# Altium footprint library ptitteam_pcb.PcbLib: 43 footprints (part 1 of 3)
Each footprint in its own frame and in the unit in brackets; x right, y up, seen from the top. Pads: shape width x height; smd on the part's side, far side on the other; paste and mask are expansions set on the pad; w line width, h text height; cw(c..) or ccw(c..) is an arc to the next point about the centre after c.
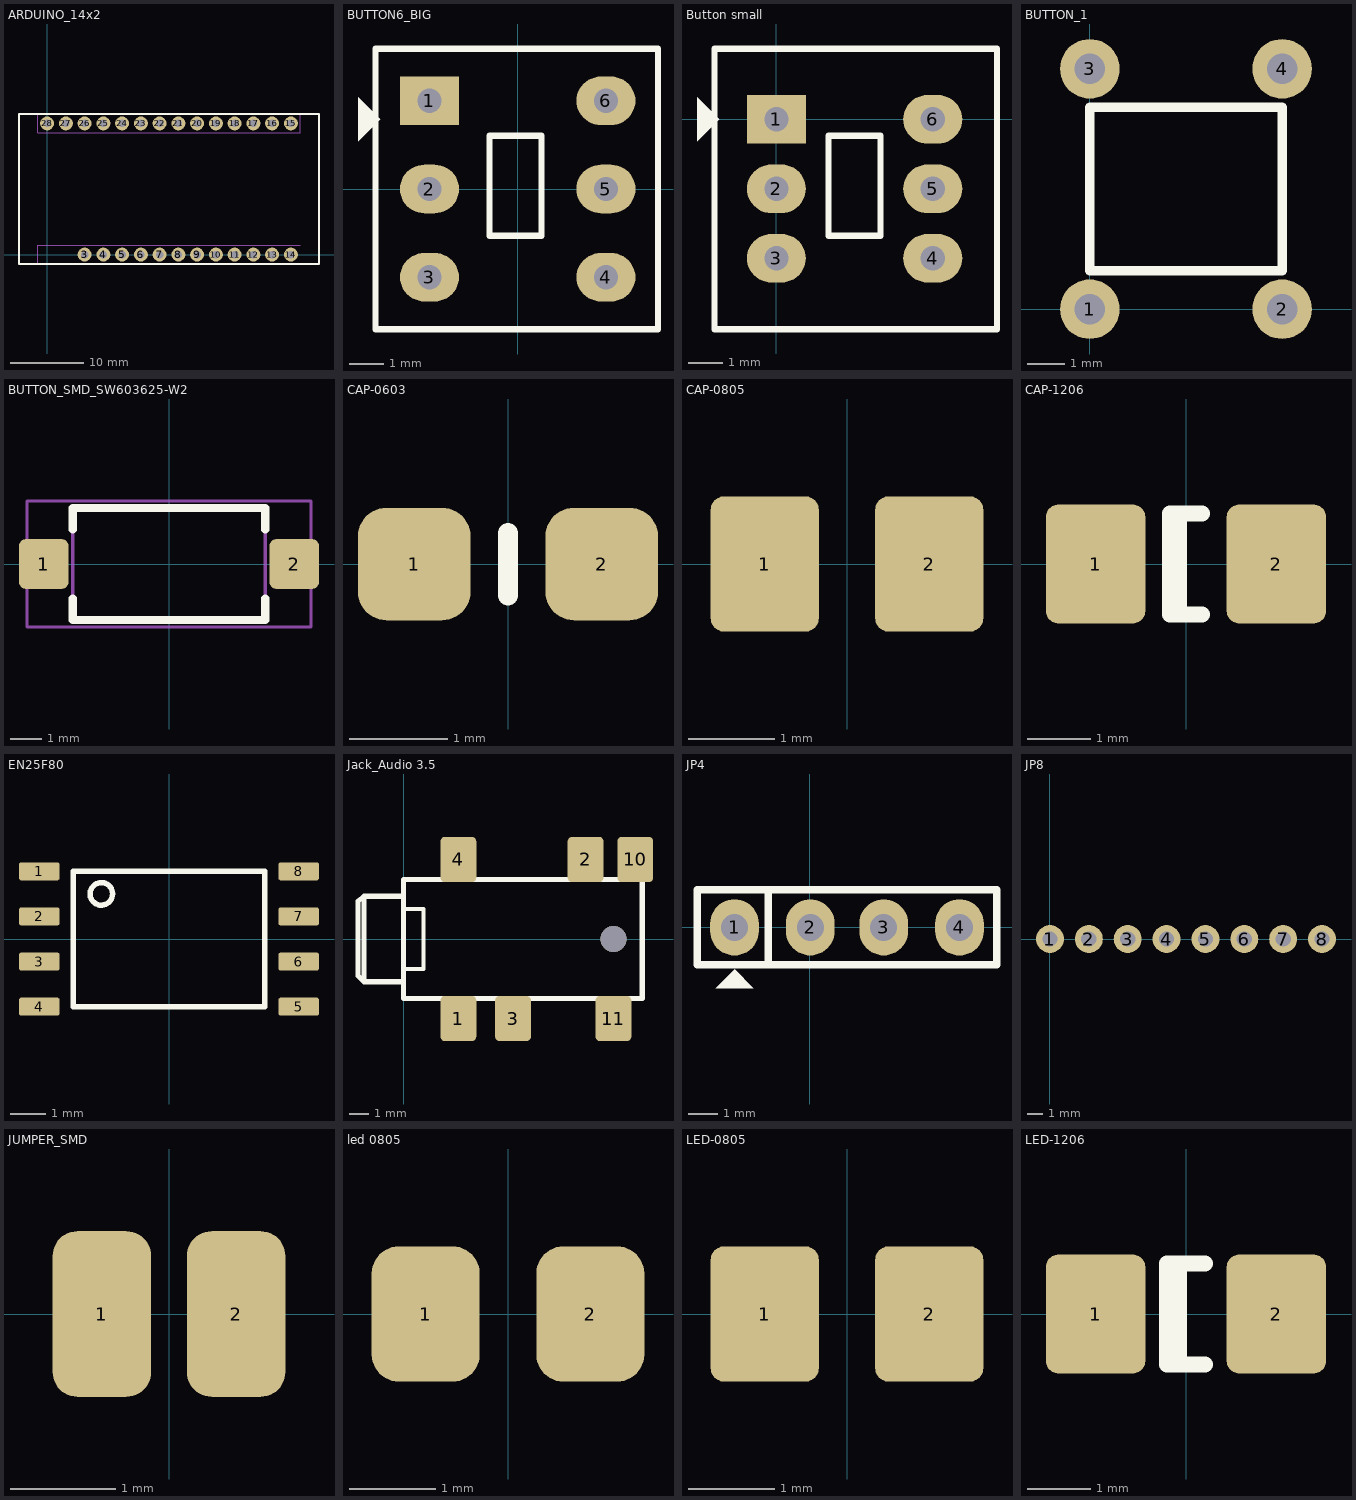
[diagram p0: the footprints below, top view; thin cyan lines are the x and y axes]

## ARDUINO_14x2 [mm] "Arduino Module; Pitch 2.54 mm"
pads (26):
  round 1.886 hole 1: 3(5.08,0) 4(7.62,0) 5(10.16,0) 6(12.7,0) 7(15.24,0) 8(17.78,0) 9(20.32,0) 10(22.86,0) 11(25.4,0) 12(27.94,0) 13(30.48,0) 14(33.02,0) 15(33.02,17.78) 16(30.48,17.78) 17(27.94,17.78) 18(25.4,17.78) 19(22.86,17.78) 20(20.32,17.78) 21(17.78,17.78) 22(15.24,17.78) 23(12.7,17.78) 24(10.16,17.78) 25(7.62,17.78) 26(5.08,17.78) 27(2.54,17.78) 28(0,17.78)
Top Overlay:
  lines w0.254: -3.81,-1.27 36.83,-1.27 36.83,19.05 -3.81,19.05 -3.81,-1.27
Mechanical 15:
  lines w0.1: 34.29,-1.27 -1.27,-1.27 -1.27,1.27 34.29,1.27 ; -1.27,16.51 -1.27,19.05 34.29,19.05 34.29,16.51 -1.27,16.51
3D body: height 1.7, standoff -9.5, extent 3.86,-1.23 13.92,1.27
3D body: height 10.15, standoff 8.92, extent 13.997,5.08 21.563,12.646
3D body: height 13.3, standoff 9, extent 1.22,3.427 14.02,8.257
3D body: height 8.5, standoff 6, extent -4.191,-1.651 37.211,19.431
3D body: height 1.7, standoff -9.5, extent 14.02,-1.27 34.24,1.23
3D body: height 8.45, standoff 3.55, extent -12.7,1.37 -1.56,16.41
3D body: height 10, standoff 8, extent 26.16,3.23 32.26,6.93
3D body: height 1.7, standoff -9.5, extent -1.22,16.51 13.92,19.01
3D body: height 1.7, standoff -9.5, extent 13.97,16.53 34.19,19.03
3D body: height 9.3, standoff 7.7, extent -3.336,14.478 -1.744,16.071
3D body: height 9.3, standoff 7.7, extent -3.336,11.938 -1.744,13.531
3D body: height 9.3, standoff 7.7, extent -3.336,9.398 -1.744,10.991
3D body: height 9.3, standoff 7.7, extent -3.336,6.858 -1.744,8.451
3D body: height 9.3, standoff 7.7, extent -3.336,4.318 -1.744,5.911
3D body: height 9.3, standoff 7.7, extent -3.336,1.778 -1.744,3.371
3D body: height 9.3, standoff 7.7, extent 4.284,-0.762 5.876,0.831
3D body: height 9.3, standoff 7.7, extent 6.824,-0.762 8.416,0.831
3D body: height 9.3, standoff 7.7, extent 9.364,-0.762 10.956,0.831
3D body: height 9.3, standoff 7.7, extent 11.904,-0.762 13.496,0.831
3D body: height 9.3, standoff 7.7, extent 14.444,-0.762 16.036,0.831
3D body: height 9.3, standoff 7.7, extent 16.984,-0.762 18.576,0.831
3D body: height 9.3, standoff 7.7, extent 19.524,-0.762 21.116,0.831
3D body: height 9.3, standoff 7.7, extent 22.064,-0.762 23.656,0.831
3D body: height 9.3, standoff 7.7, extent 24.604,-0.762 26.196,0.831
3D body: height 9.3, standoff 7.7, extent 27.144,-0.762 28.736,0.831
3D body: height 9.3, standoff 7.7, extent 29.684,-0.762 31.276,0.831
3D body: height 9.3, standoff 7.7, extent 32.224,-0.762 33.816,0.831
3D body: height 9.3, standoff 7.7, extent 32.224,17.018 33.816,18.611
3D body: height 9.3, standoff 7.7, extent 29.684,17.018 31.276,18.611
3D body: height 9.3, standoff 7.7, extent 27.144,17.018 28.736,18.611
3D body: height 9.3, standoff 7.7, extent 24.604,17.018 26.196,18.611
3D body: height 9.3, standoff 7.7, extent 22.064,17.018 23.656,18.611
3D body: height 9.3, standoff 7.7, extent 19.524,17.018 21.116,18.611
3D body: height 9.3, standoff 7.7, extent 16.984,17.018 18.576,18.611
3D body: height 9.3, standoff 7.7, extent 14.444,17.018 16.036,18.611
3D body: height 9.3, standoff 7.7, extent 11.904,17.018 13.496,18.611
3D body: height 9.3, standoff 7.7, extent 9.364,17.018 10.956,18.611
3D body: height 9.3, standoff 7.7, extent 6.824,17.018 8.416,18.611
3D body: height 9.3, standoff 7.7, extent 4.284,17.018 5.876,18.611
3D body: height 9.3, standoff 7.7, extent 1.744,17.018 3.336,18.611
3D body: height 9.3, standoff 7.7, extent -0.796,17.018 0.796,18.611
3D body: height 10, standoff 9.5, extent 25.533,4.78 26.283,5.38
3D body: height 10, standoff 9.5, extent 32.137,4.734 32.887,5.334
3D body: height 11, standoff 7.5, extent 27.06,3.93 31.36,6.23
3D body: height 11.5, standoff 9.5, extent 27.91,4.48 30.51,5.68
3D body: height 8.64, standoff 7, extent 35.052,2.032 36.064,3.046
3D body: height 8.62, standoff 7, extent 34.671,1.651 36.442,3.425
3D body: height 8.62, standoff 7, extent 34.671,4.191 36.442,5.965
3D body: height 8.64, standoff 7, extent 35.052,4.572 36.064,5.586
3D body: height 8.62, standoff 7, extent 34.671,6.731 36.442,8.505
3D body: height 8.64, standoff 7, extent 35.052,7.112 36.064,8.126
3D body: height 8.62, standoff 7, extent 34.671,9.271 36.442,11.045
3D body: height 8.64, standoff 7, extent 35.052,9.652 36.064,10.666
3D body: height 8.62, standoff 7, extent 34.671,11.811 36.442,13.585
3D body: height 8.64, standoff 7, extent 35.052,12.192 36.064,13.206
3D body: height 8.62, standoff 7, extent 34.671,14.351 36.442,16.125
3D body: height 8.64, standoff 7, extent 35.052,14.732 36.064,15.746
3D body: height 8.62, standoff 7, extent 24.511,14.351 26.282,16.125
3D body: height 8.64, standoff 7, extent 24.892,14.732 25.904,15.746
3D body: height 8.62, standoff 7, extent 24.511,11.811 26.282,13.585
3D body: height 8.64, standoff 7, extent 24.892,12.192 25.904,13.206
3D body: height 8.62, standoff 7, extent 24.511,9.271 26.282,11.045
3D body: height 8.64, standoff 7, extent 24.892,9.652 25.904,10.666
3D body: height 8.62, standoff 7, extent 1.651,-0.889 3.422,0.885
3D body: height 8.64, standoff 7, extent 2.032,-0.508 3.044,0.506
3D body: height 8.62, standoff 7, extent -0.889,-0.889 0.882,0.885
3D body: height 8.64, standoff 7, extent -0.508,-0.508 0.504,0.506

## BUTTON6_BIG [mm]
pads (6):
  rect 1.7x1.4 hole 0.7: 1(-2.54,2.54)
  oval 1.7x1.4 hole 0.7: 2(-2.54,0) 3(-2.54,-2.54) 4(2.54,-2.54) 5(2.54,0) 6(2.54,2.54)
Top Overlay:
  region: -4.597,2.642 -3.962,2.007 -4.597,1.372
  lines w0.178: -4.089,-4.039 -4.089,4.039 4.039,4.039 4.039,-4.039 -4.089,-4.039 ; -0.811,-1.346 -0.811,1.532 0.689,1.532 0.689,-1.346 -0.811,-1.346
3D body: height 13.52, standoff -3.48, extent -4,-4 4,4

## Button small [mm]
pads (6):
  rect 1.7x1.4 hole 0.7: 1(0,0)
  oval 1.7x1.4 hole 0.7: 2(0,-2) 3(0,-4) 4(4.5,-4) 5(4.5,-2) 6(4.5,0)
Top Overlay:
  region: -2.286,0.635 -1.651,0 -2.286,-0.635
  lines w0.178: -1.778,-6.045 -1.778,2.032 6.35,2.032 6.35,-6.045 -1.778,-6.045 ; 1.5,-3.353 1.5,-0.475 3,-0.475 3,-3.353 1.5,-3.353
3D body: height 13.52, standoff -3.48, extent -1.689,-6.006 6.311,1.994

## BUTTON_1 [mil]
pads (4):
  round 62 hole 32: 1(0,0) 2(200,0) 3(0,250) 4(200,250)
Top Overlay:
  lines w10: 0,40 0,210 200,210 200,40 0,40

## BUTTON_SMD_SW603625-W2 [mm] "SMD Tact Switch 6.0x3.6x2.5mm (www.tme.vn)"
height 2.5
pads (2):
  rrect25% 1.569x1.569 smd: 1(-3.969,0) 2(3.969,0)
Top Overlay:
  lines w0.254: -3.05,-1.1 -3.05,-1.775 3.05,-1.775 3.05,-1.1 ; -3.05,1.1 -3.05,1.775 3.05,1.775 3.05,1.1
Mechanical 1:
  lines w0.1: -3.05,-1.85 3.05,-1.85 3.05,1.85 -3.05,1.85 -3.05,-1.85
Mechanical 15:
  lines w0.1: -4.5,-2 4.5,-2 4.5,2 -4.5,2 -4.5,-2
3D body: height 2.5, standoff 1, extent -1.3,-0.6 1.3,0.6
3D body: height 1.95, standoff 1, extent -2.15,-1.15 2.15,1.15
3D body: height 0.5, standoff 0, extent 3.25,-0.3 3.45,0.3
3D body: height 0.2, standoff 0, extent 3.25,-0.3 4,0.3
3D body: height 0.5, standoff 0.3, extent 3.05,-0.3 3.45,0.3
3D body: height 0.5, standoff 0.3, extent -3.45,-0.3 -3.05,0.3
3D body: height 0.2, standoff 0, extent -4,-0.3 -3.25,0.3
3D body: height 0.5, standoff 0, extent -3.45,-0.3 -3.25,0.3
3D body: height 1.4, standoff 0, extent -3.05,-1.85 3.05,1.85

## CAP-0603 [mil] "Chip Capacitor; Body 2 x 1.2 mm (LxW typ)"
height 27.56
pads (2):
  rrect50% 45x45 smd: 1(-37.5,0) 2(37.5,0)
Top Overlay:
  lines w8: 0,-12.5 0,12.5
3D body: height 27.56, standoff 0, extent 21.65,-23.62 39.37,23.62
3D body: height 27.56, standoff 0, extent -39.37,-23.62 -21.65,23.62
3D body: height 25.59, standoff 1.97, extent -37.4,-21.65 37.4,21.65

## CAP-0805 [mil] "Chip Capacitor; Body 2 x 1.2 mm (LxW typ)"
height 27.56
pads (2):
  rrect25% 49.27x61.77 smd: 1(-37.5,0) 2(37.5,0)
3D body: height 27.56, standoff 0, extent -39.37,-23.62 -21.65,23.62
3D body: height 27.56, standoff 0, extent 21.65,-23.62 39.37,23.62
3D body: height 25.59, standoff 1.97, extent -37.4,-21.65 37.4,21.65

## CAP-1206 [mm] "Chip Capacitor; Body 3.2 x 1.6 mm (LxW typ)"
height 1.3
pads (2):
  rrect25% 1.569x1.886 smd: 1(-1.429,0) 2(1.429,0)
Top Overlay:
  lines w0.254: -0.11,-0.8 -0.11,0.8 ; 0.25,-0.8 -0.25,-0.8 -0.25,0.8 0.25,0.8
3D body: height 1.21, standoff 1.2, extent -1.35,-0.75 -0.95,0.75
3D body: height 0.7, standoff 0, extent 1.55,-0.55 1.6,0.55
3D body: height 0.7, standoff 0, extent -1.6,-0.55 -1.55,0.55
3D body: height 1.2, standoff 0, extent -1.55,-0.75 1.55,0.75

## EN25F80 [mil]
pads (8):
  rrect25% 45x20 smd: 1(-143.75,75) 2(-143.75,25) 3(-143.75,-25) 4(-143.75,-75) 5(143.75,-75) 6(143.75,-25) 7(143.75,25) 8(143.75,75)
Top Overlay:
  circle w6: c-75,50 r12.5
  lines w6: -106.25,-75 -106.25,75 106.25,75 106.25,-75 -106.25,-75

## Jack_Audio 3.5 [mm]
pads (6):
  rrect25% 1.8x2.286 smd: 1(2.75,-4) 2(9.15,4) 3(5.5,-4) 4(2.75,4) 10(11.65,4) 11(10.55,-4)
via 10.55,0 diameter 1.3 hole 1.3
Top Overlay:
  lines w0.203: 0,-1.5 1,-1.5 1,1.5 0,1.5
  lines w0.254: 0,-2.15 -2,-2.15 ; 0,-2 0,3 12,3 12,-3 0,-3 0,-1.6 ; 0,2.15 -2,2.15 ; -2,-2.15 -2.3,-1.85 -2.3,1.9 -2,2.15 ; -2,-2.15 -2,2.15 ; -2,2.15 -2,2.15

## JP4 [mil] "Jumper 4"
height 200
pads (4):
  oval 65x75 hole 36: 1(-100,0) 2(1,0) 3(99,0) 4(200,0)
Top Overlay:
  region: -100,-56 -125,-81 -75,-81
  lines w10: -55,-50 -55,49 ; -150,-50 -150,50 250,50 250,-50 -150,-50
3D body: height 323.44, standoff -117.51, extent -148.03,-48.43 248.03,50

## JP8 [mil] "JP8"
height 200
pads (8):
  round 72 hole 39.37: 1(0,0) 2(100,0) 3(200,0) 4(300,0) 5(400,0) 6(500,0) 7(600,0) 8(700,0)

## JUMPER_SMD [mm] "SMD Jumper"
pads (2):
  rrect50% 0.934x1.569 smd: 1(-0.635,0) 2(0.635,0)

## led 0805 [mm]
pads (2):
  rrect50% 1.251x1.569 smd: 1(-0.953,0) 2(0.953,0)
3D body: height 0.3, standoff 0, extent -0.953,-0.635 0.953,0.635
3D body: height 0.8, standoff 0.3, extent -0.635,-0.635 0.635,0.635

## LED-0805 [mil] "Chip LED; Body 2 x 1.2 mm (LxW typ)"
height 27.56
pads (2):
  rrect25% 49.27x61.77 smd: 1(-37.5,0) 2(37.5,0)
3D body: height 11.81, standoff 0, extent -39.37,-24.61 39.37,24.61
3D body: height 11.85, standoff 11.77, extent 27.56,12.8 39.37,24.61
3D body: height 31.5, standoff 11.85, extent -27.56,-24.61 27.56,24.61
3D body: height 12.6, standoff 11.42, extent 91.27,-1003.78 118.73,-976.27

## LED-1206 [mm] "Chip LED; Body 3.1 x 1.6 mm (LxW typ)"
height 0.7
pads (2):
  rrect25% 1.569x1.886 smd: 1(-1.429,0) 2(1.429,0)
Top Overlay:
  lines w0.254: -0.11,-0.8 -0.11,0.8 ; 0.3,-0.8 -0.3,-0.8 -0.3,0.8 0.3,0.8
3D body: height 1, standoff 0.51, extent -1,-0.75 1,0.75
3D body: height 0.52, standoff 0.49, extent 2.32,-25.495 3.017,-24.796
3D body: height 0.5, standoff 0, extent -1.6,-0.75 1.6,0.75